# Altium footprint library Footprint_Connector.PcbLib: 22 footprints (part 2 of 2)
Each footprint in its own frame and in the unit in brackets; x right, y up, seen from the top. Pads: shape width x height; smd on the part's side, far side on the other; paste and mask are expansions set on the pad; w line width, h text height; cw(c..) or ccw(c..) is an arc to the next point about the centre after c.
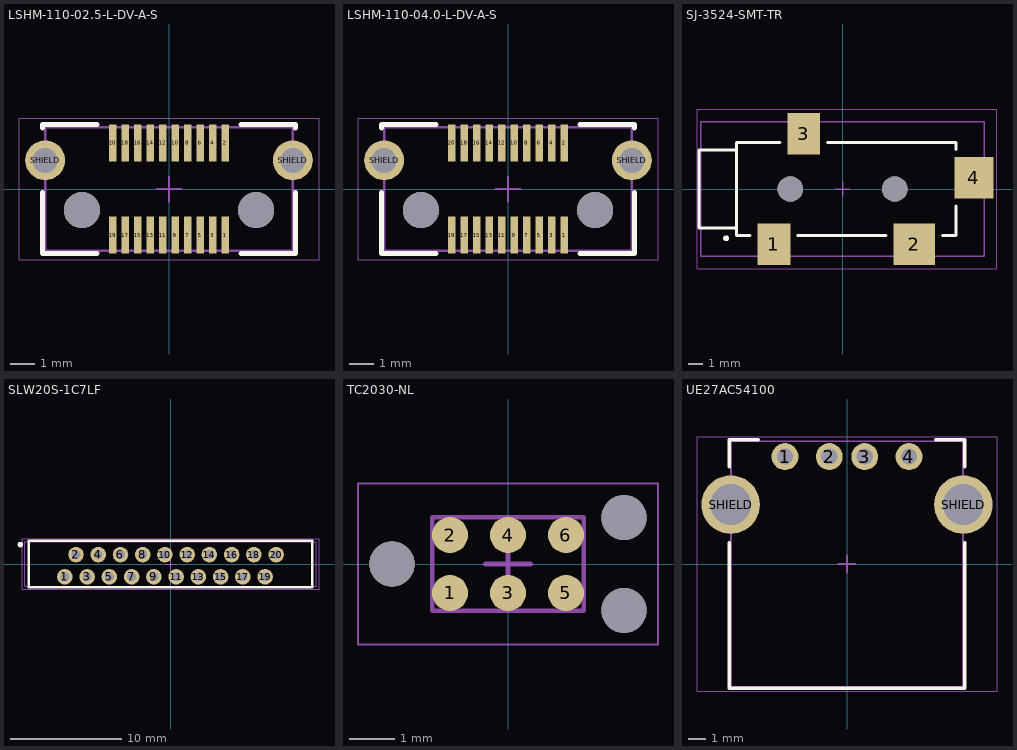
[diagram p1: the footprints below, top view; thin cyan lines are the x and y axes]

## LSHM-110-02.5-L-DV-A-S [mm] "CONN SELF-MATE 20POS SMD GOLD"
pads (24):
  rect 0.3x1.5 smd: 1(2.25,-1.85) 2(2.25,1.85) 3(1.75,-1.85) 4(1.75,1.85) 5(1.25,-1.85) 6(1.25,1.85) 7(0.75,-1.85) 8(0.75,1.85) 9(0.25,-1.85) 10(0.25,1.85) 11(-0.25,-1.85) 12(-0.25,1.85) 13(-0.75,-1.85) 14(-0.75,1.85) 15(-1.25,-1.85) 16(-1.25,1.85) 17(-1.75,-1.85) 18(-1.75,1.85) 19(-2.25,-1.85) 20(-2.25,1.85)
  round 1.6 hole 1: SHIELD(-4.975,1.15) SHIELD(4.975,1.15)
  round 1.45 hole 1.45 unplated: ""(-3.5,-0.85) ""(3.5,-0.85)
Top Overlay:
  lines w0.2: -5.075,-0.15 -5.075,-2.59 -2.9,-2.59 ; -5.075,2.45 -5.075,2.59 -2.9,2.59 ; 2.9,-2.59 5.075,-2.59 5.075,-0.15 ; 2.9,2.59 5.075,2.59 5.075,2.45
Top Assembly:
  lines w0.1: -4.975,-2.49 4.975,-2.49 4.975,2.49 -4.975,2.49 -4.975,-2.49
  text ".Designator" at -7.747,-1.27 h1.27
Top Courtyard:
  lines w0.05: -6.025,-2.85 6.025,-2.85 6.025,2.85 -6.025,2.85 -6.025,-2.85
  lines w0.1: -0.5,0 0.5,0 ; 0,-0.5 0,0.5
3D body "LSHM-110-02.5-L-DV-A-S-TR.stp": height 3.93, standoff -1.67, extent -5.401,-2.49 5.401,2.64

## LSHM-110-04.0-L-DV-A-S [mm] "CONN SELF-MATE 20POS SMD GOLD"
pads (24):
  rect 0.3x1.5 smd: 1(2.25,-1.85) 2(2.25,1.85) 3(1.75,-1.85) 4(1.75,1.85) 5(1.25,-1.85) 6(1.25,1.85) 7(0.75,-1.85) 8(0.75,1.85) 9(0.25,-1.85) 10(0.25,1.85) 11(-0.25,-1.85) 12(-0.25,1.85) 13(-0.75,-1.85) 14(-0.75,1.85) 15(-1.25,-1.85) 16(-1.25,1.85) 17(-1.75,-1.85) 18(-1.75,1.85) 19(-2.25,-1.85) 20(-2.25,1.85)
  round 1.6 hole 1: SHIELD(-4.975,1.15) SHIELD(4.975,1.15)
  round 1.45 hole 1.45 unplated: ""(-3.5,-0.85) ""(3.5,-0.85)
Top Overlay:
  lines w0.2: -5.075,-0.15 -5.075,-2.59 -2.9,-2.59 ; -5.075,2.45 -5.075,2.59 -2.9,2.59 ; 2.9,-2.59 5.075,-2.59 5.075,-0.15 ; 2.9,2.59 5.075,2.59 5.075,2.45
Top Assembly:
  lines w0.1: -4.975,-2.49 -4.975,2.49 4.975,2.49 4.975,-2.49 -4.975,-2.49
  text ".Designator" at -7.747,-1.27 h1.27
Top Courtyard:
  lines w0.05: -6.025,-2.85 -6.025,2.85 6.025,2.85 6.025,-2.85 -6.025,-2.85
  lines w0.1: -0.5,0 0.5,0 ; 0,-0.5 0,0.5
3D body "LSHM-110-04.0-L-DV-A-S-TR.stp": height 5.43, standoff -1.67, extent -5.401,-2.49 5.401,2.64

## SJ-3524-SMT-TR [mm] "CONN JACK STEREO 3.5MM SMD R/A"
pads (6):
  rect 2.2x2.8 smd: 1(-4.6,-3.7) 3(-2.6,3.7)
  rect 2.8x2.8 smd: 2(4.8,-3.7)
  rect 2.6x2.8 smd: 4(8.8,0.75)
  round 1.7 hole 1.7 unplated: ""(-3.5,0) ""(3.5,0)
Top Overlay:
  circle w0.2: c-7.8,-3.3 r0.1
  lines w0.2: -7.1,-2.6 -9.6,-2.6 -9.6,2.6 -7.1,2.6 ; -6.2,-3.1 -7.1,-3.1 -7.1,3.1 -4.2,3.1 ; -3,-3.1 2.9,-3.1 ; -1,3.1 7.6,3.1 7.6,2.65 ; 6.7,-3.1 7.6,-3.1 7.6,-1.15
Top Assembly:
  lines w0.1: -9.5,-4.5 -9.5,4.5 9.5,4.5 9.5,-4.5 -9.5,-4.5
  text ".Designator" at -7.747,-1.27 h1.27
Top Courtyard:
  lines w0.05: -9.75,-5.35 -9.75,5.35 10.35,5.35 10.35,-5.35 -9.75,-5.35
  lines w0.1: -0.5,0 0.5,0 ; 0,-0.5 0,0.5
3D body "CUI_DEVICES_SJ-3524-SMT-TR.step": height 5.09, standoff -0.71, extent -9.5,-4.5 9.5,4.5

## SLW20S-1C7LF [mm] "CONN FFC FPC VERT 20POS 1MM PCB"
pads (20):
  round 1.4 hole 0.8: 1(-9.5,-1.15) 2(-8.5,0.85) 3(-7.5,-1.15) 4(-6.5,0.85) 5(-5.5,-1.15) 6(-4.5,0.85) 7(-3.5,-1.15) 8(-2.5,0.85) 9(-1.5,-1.15) 10(-0.5,0.85) 11(0.5,-1.15) 12(1.5,0.85) 13(2.5,-1.15) 14(3.5,0.85) 15(4.5,-1.15) 16(5.5,0.85) 17(6.5,-1.15) 18(7.5,0.85) 19(8.5,-1.15) 20(9.5,0.85)
Top Overlay:
  circle w0.25: c-13.5,1.75 r0.125
  lines w0.2: -12.75,-2.1 -12.75,2.1 12.75,2.1 12.75,-2.1 -12.75,-2.1
Top Assembly:
  lines w0.1: -13.1,-2 13.1,-2 13.1,2 -13.1,2 -13.1,-2
  text ".Designator" at -7.747,-1.27 h1.27
Top Courtyard:
  lines w0.05: -13.35,-2.25 13.35,-2.25 13.35,2.25 -13.35,2.25 -13.35,-2.25
  lines w0.1: -0.5,0 0.5,0 ; 0,-0.5 0,0.5
3D body "sslw20s-1c7_lf.stp": height 5, standoff -3.5, extent -13.1,-2 13.1,2

## TC2030-NL [mil] "6-Pin Tag-Connect"
pads (9):
  round 30.98 smd paste-39.37: 1(-50,-25) 2(-50,25) 3(0,-25) 4(0,25) 5(50,-25) 6(50,25)
  round 39.02 hole 39.02 unplated: ""(-100,0) ""(100,-40) ""(100,40)
Top Assembly:
  lines w3.94: 65.47,-40.47 -65.47,-40.47 -65.47,40.47 65.47,40.47 65.49,-40.47
  text ".Designator" at -305,-50 h30
Top Courtyard:
  lines w1.97: -129.37,-69.37 129.37,-69.37 129.37,69.37 -129.37,69.37 -129.37,-69.37
  lines w3.94: -19.68,0 19.69,0 ; 0,-19.68 0,19.69

## UE27AC54100 [mm] "CONN RCPT USB2.0 TYPEA 4POS R/A"
pads (6):
  round 1.52 hole 0.92 mask+0.05: 1(-3.5,6.065) 2(-1,6.065) 3(1,6.065) 4(3.5,6.065)
  round 3.3 hole 2.3 mask+0.05: SHIELD(-6.57,3.355) SHIELD(6.57,3.355)
Top Overlay:
  lines w0.2: -6.65,1.205 -6.65,-7.025 6.65,-7.025 6.65,1.205 ; -6.65,5.505 -6.65,7.025 -5.02,7.025 ; 5.02,7.025 6.65,7.025 6.65,5.505
Top Assembly:
  lines w0.1: -6.55,-6.925 6.55,-6.925 6.55,6.925 -6.55,6.925 -6.55,-6.925
  text ".Designator" at -7.747,-1.27 h1.27
Top Courtyard:
  lines w0.05: -8.47,-7.175 8.47,-7.175 8.47,7.175 -8.47,7.175 -8.47,-7.175
  lines w0.1: -0.5,0 0.5,0 ; 0,-0.5 0,0.5
3D body "M-UE27-AC54-100-REVG1.step": height 7.6, standoff -3.15, extent -7.428,-6.875 7.429,6.925